# Altium integrated library TI Amplifiers and Linear Operational Amplifier High Speed.IntLib: 1100 symbols (part 17 of 44)
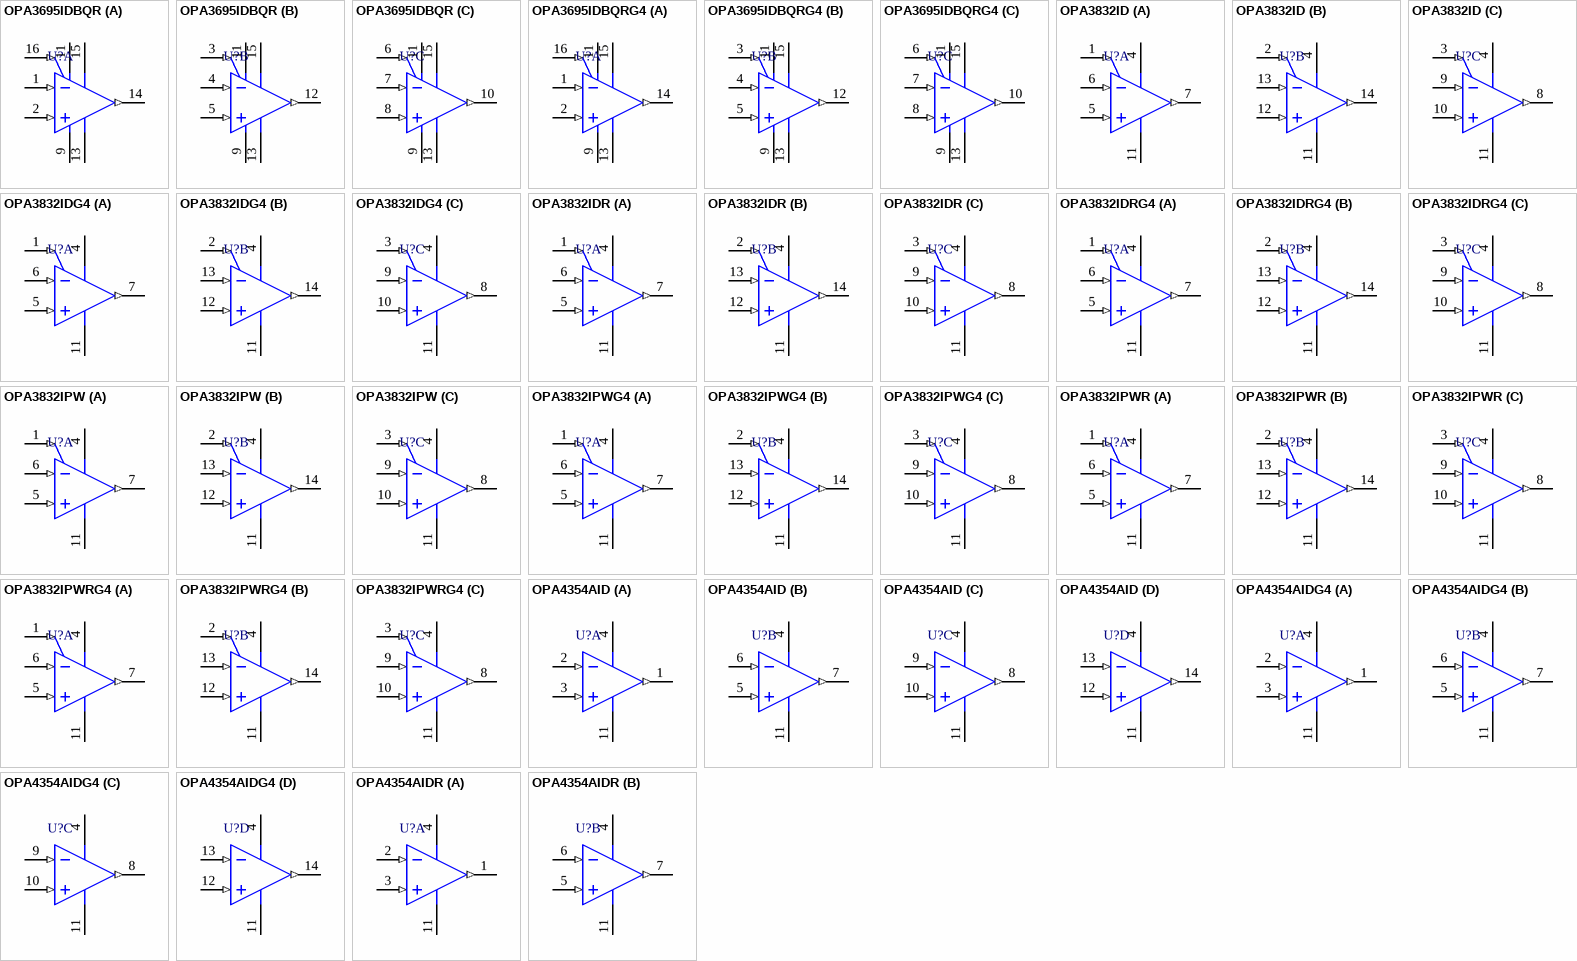
[diagram p67: symbols OPA3695IDBQR to OPA4354AIDR]

## OPA3832IPWG4
designator U?
Triple, Low-Power, High-Speed, Fixed-Gain Operational Amplifier, 3 to 11 V, -40 to 85 degC, 14-pin SOP (PW14), Green (RoHS & no Sb/Br); Manufacturer: Texas Instruments; PartNumber: OPA3832IPWG4; 2nd Harmonic(dBc): 60; 3rd Harmonic(dBc): 79; @ MHz: 5; Acl, min stable gain(V/V): 1; BW @ Acl(MHz): 210; Diff Gain(%): 0.11; Diff Phase(deg): 0.14; Iib(Max)(nA): 10000; Io(Typ)(mA): 75; Iq per channel(Max)(mA): 3.9; Number of Channels: 3; Rail-Rail: Out; Sub Family: High Output Current Amplifier (>=50mA), High Speed Amplifier (>=50MHz); DatasheetVersion: SBOS370A; PackageVersion: 4040064-3/G, 02/2011; PackageReference: PW14; PackageDescription: 14-Pin Plastic Small Outline, Body 5 x 4.4 mm, Pitch 0.65 mm; Supplier 1: Digi-Key; Supplier Part Number 1: OPA3832IPWG4-ND; Supplier 2: Mouser; Supplier Part Number 2: 595-OPA3832IPWG4; Eco-Plan: Green (RoHS & no Sb/Br); Mounting Technology: Surface Mount; Code_JEDEC: MO-153; ComponentLink1Description: Manufacturer URL; ComponentLink1URL: http://www.ti.com/; ComponentLink2Description: Datasheet; ComponentLink2URL: http://www.ti.com/general/docs/lit/getliterature.tsp?genericPartNumber=OPA3832&fileType=pdf; ComponentLink3Description: Package Specification; ComponentLink3URL: http://www.ti.com/litv/pdf/mpds360
footprint TI-PW14_N (SOP, 14-Leads, Body 5x4.4mm, Pitch 0.65mm, IPC Medium Density)
footprint TI-PW14_L (SOP, 14-Leads, Body 5x4.4mm, Pitch 0.65mm, IPC High Density)
footprint TI-PW14_M (SOP, 14-Leads, Body 5x4.4mm, Pitch 0.65mm, IPC Low Density)
pins on every part: 4 VS+ (power), 11 VS- (power)
part A pins: 1 ~{DIS} ~{A} (in), 5 IN A+ (in), 6 IN A- (in), 7 OUT A (out)
part B pins: 2 ~{DIS} ~{B} (in), 12 IN B+ (in), 13 IN B- (in), 14 OUT B (out)
part C pins: 3 ~{DIS} ~{C} (in), 8 OUT C (out), 9 IN C- (in), 10 IN C+ (in)

## OPA3832IPWR
designator U?
Triple, Low-Power, High-Speed, Fixed-Gain Operational Amplifier, 3 to 11 V, -40 to 85 degC, 14-pin SOP (PW14), Green (RoHS & no Sb/Br); Manufacturer: Texas Instruments; PartNumber: OPA3832IPWR; 2nd Harmonic(dBc): 60; 3rd Harmonic(dBc): 79; @ MHz: 5; Acl, min stable gain(V/V): 1; BW @ Acl(MHz): 210; Diff Gain(%): 0.11; Diff Phase(deg): 0.14; Iib(Max)(nA): 10000; Io(Typ)(mA): 75; Iq per channel(Max)(mA): 3.9; Number of Channels: 3; Rail-Rail: Out; Sub Family: High Output Current Amplifier (>=50mA), High Speed Amplifier (>=50MHz); DatasheetVersion: SBOS370A; PackageVersion: 4040064-3/G, 02/2011; PackageReference: PW14; PackageDescription: 14-Pin Plastic Small Outline, Body 5 x 4.4 mm, Pitch 0.65 mm; Supplier 1: Digi-Key; Supplier Part Number 1: OPA3832IPWR-ND; Supplier 2: Mouser; Supplier Part Number 2: 595-OPA3832IPWR; Eco-Plan: Green (RoHS & no Sb/Br); Mounting Technology: Surface Mount; Code_JEDEC: MO-153; ComponentLink1Description: Manufacturer URL; ComponentLink1URL: http://www.ti.com/; ComponentLink2Description: Datasheet; ComponentLink2URL: http://www.ti.com/general/docs/lit/getliterature.tsp?genericPartNumber=OPA3832&fileType=pdf; ComponentLink3Description: Package Specification; ComponentLink3URL: http://www.ti.com/litv/pdf/mpds360
footprint TI-PW14_N (SOP, 14-Leads, Body 5x4.4mm, Pitch 0.65mm, IPC Medium Density)
footprint TI-PW14_L (SOP, 14-Leads, Body 5x4.4mm, Pitch 0.65mm, IPC High Density)
footprint TI-PW14_M (SOP, 14-Leads, Body 5x4.4mm, Pitch 0.65mm, IPC Low Density)
pins on every part: 4 VS+ (power), 11 VS- (power)
part A pins: 1 ~{DIS} ~{A} (in), 5 IN A+ (in), 6 IN A- (in), 7 OUT A (out)
part B pins: 2 ~{DIS} ~{B} (in), 12 IN B+ (in), 13 IN B- (in), 14 OUT B (out)
part C pins: 3 ~{DIS} ~{C} (in), 8 OUT C (out), 9 IN C- (in), 10 IN C+ (in)

## OPA3832IPWRG4
designator U?
Triple, Low-Power, High-Speed, Fixed-Gain Operational Amplifier, 3 to 11 V, -40 to 85 degC, 14-pin SOP (PW14), Green (RoHS & no Sb/Br); Manufacturer: Texas Instruments; PartNumber: OPA3832IPWRG4; 2nd Harmonic(dBc): 65; 3rd Harmonic(dBc): 75; @ MHz: 5; Acl, min stable gain(V/V): 1; BW @ Acl(MHz): 250; Diff Gain(%): 0.1; Diff Phase(deg): 0.16; Iib(Max)(nA): 13000; Io(Typ)(mA): 82; Iq per channel(Max)(mA): 3.9; Number of Channels: 3; Settling Time (0.1%)(Typ)(ns): 45; Slew Rate(Typ)(V/us): 325; Sub Family: High Output Current Amplifier (>=50mA), High Speed Amplifier (>=50MHz); Vio(Max)(mV): 9.7; Vn at Flatband(Typ)(nV/rtHz): 9.2; Vs(Max)(V): 11; DatasheetVersion: SBOS370A; PackageVersion: 4040064-3/G, 02/2011; PackageReference: PW14; PackageDescription: 14-Pin Plastic Small Outline, Body 5 x 4.4 mm, Pitch 0.65 mm; Supplier 1: Digi-Key; Supplier Part Number 1: OPA3832IPWRG4-ND; Supplier 2: Mouser; Supplier Part Number 2: 595-OPA3832IPWRG4; Eco-Plan: Green (RoHS & no Sb/Br); Vs(Min)(V): 3; Mounting Technology: Surface Mount; Code_JEDEC: MO-153; ComponentLink1Description: Manufacturer URL; ComponentLink1URL: http://www.ti.com/; ComponentLink2Description: Datasheet; ComponentLink2URL: http://www.ti.com/general/docs/lit/getliterature.tsp?genericPartNumber=OPA3832&fileType=pdf; ComponentLink3Description: Package Specification; ComponentLink3URL: http://www.ti.com/litv/pdf/mpds360
footprint TI-PW14_N (SOP, 14-Leads, Body 5x4.4mm, Pitch 0.65mm, IPC Medium Density)
footprint TI-PW14_L (SOP, 14-Leads, Body 5x4.4mm, Pitch 0.65mm, IPC High Density)
footprint TI-PW14_M (SOP, 14-Leads, Body 5x4.4mm, Pitch 0.65mm, IPC Low Density)
pins on every part: 4 VS+ (power), 11 VS- (power)
part A pins: 1 ~{DIS} ~{A} (in), 5 IN A+ (in), 6 IN A- (in), 7 OUT A (out)
part B pins: 2 ~{DIS} ~{B} (in), 12 IN B+ (in), 13 IN B- (in), 14 OUT B (out)
part C pins: 3 ~{DIS} ~{C} (in), 8 OUT C (out), 9 IN C- (in), 10 IN C+ (in)

## OPA4354AID
designator U?
250 MHz, Rail-to-Rail I/O, CMOS Quad Operational Amplifier, 2.7 to 5.5 V, -40 to 125 degC, 14-pin SOIC (D14), Green (RoHS & no Sb/Br); Manufacturer: Texas Instruments; PartNumber: OPA4354AID; 2nd Harmonic(dBc): 75; 3rd Harmonic(dBc): 83; @ MHz: 1; BW @ Acl(MHz): 250; Diff Gain(%): 0.02; Diff Phase(deg): 0.09; Iib(Max)(nA): 0.05; Io(Typ)(mA): 100; Iq per channel(Max)(mA): 7.5; Number of Channels: 4; Rail-Rail: In, Out; Settling Time (0.1%)(Typ)(ns): 30; Slew Rate(Typ)(V/us): 150; Sub Family: High Output Current Amplifier (>=50mA), High Speed Amplifier (>=50MHz), Low Supply Voltage Amplifier (<=2.7V); THD (Fc is 1 MHz)(Typ)(dB): -73; Vio(Max)(mV): 8; Vn at Flatband(Typ)(nV/rtHz): 6.5; Vs(Max)(V): 5.5; Vs(Min)(V): 2.7; DatasheetVersion: SBOS233E; PackageVersion: 4040047-5/M, 06/2011; PackageReference: D14; PackageDescription: 14-Pin Plastic Small Outline, Body 8.65 x 3.9 mm, Pitch 1.27 mm; Supplier 1: Digi-Key; Supplier Part Number 1: 296-33479-5-ND; Supplier 2: Farnell; Supplier Part Number 2: 1212311; Supplier 3: Newark; Supplier Part Number 3: 01M8419; Supplier 4: Newark; Supplier Part Number 4: 75C5018; Supplier 5: Mouser; Supplier Part Number 5: 595-OPA4354AID; Acl, min stable gain(V/V): 1; Eco-Plan: Green (RoHS & no Sb/Br); Mounting Technology: Surface Mount; Code_JEDEC: MS-012; ComponentLink1Description: Manufacturer URL; ComponentLink1URL: http://www.ti.com/; ComponentLink2Description: Datasheet; ComponentLink2URL: http://www.ti.com/general/docs/lit/getliterature.tsp?genericPartNumber=OPA4354&fileType=pdf; ComponentLink3Description: Package Specification; ComponentLink3URL: http://www.ti.com/lit/ml/mpds177g/mpds177g.pdf
footprint TI-D14_N (SOIC, 14-Leads, Body 8.65x3.9mm, Pitch 1.27mm, IPC Medium Density)
footprint TI-D14_L (SOIC, 14-Leads, Body 8.65x3.9mm, Pitch 1.27mm, IPC High Density)
footprint TI-D14_M (SOIC, 14-Leads, Body 8.65x3.9mm, Pitch 1.27mm, IPC Low Density)
pins on every part: 4 V+ (power), 11 V- (power)
part A pins: 1 OUT A (out), 2 IN A- (in), 3 IN A+ (in)
part B pins: 5 IN B+ (in), 6 IN B- (in), 7 OUT B (out)
part C pins: 8 OUT C (out), 9 IN C- (in), 10 IN C+ (in)
part D pins: 12 IN D+ (in), 13 IN D- (in), 14 OUT D (out)

## OPA4354AIDG4
designator U?
250 MHz, Rail-to-Rail I/O, CMOS Quad Operational Amplifier, 2.7 to 5.5 V, -40 to 125 degC, 14-pin SOIC (D14), Green (RoHS & no Sb/Br); Manufacturer: Texas Instruments; PartNumber: OPA4354AIDG4; 2nd Harmonic(dBc): 75; 3rd Harmonic(dBc): 83; @ MHz: 1; BW @ Acl(MHz): 250; Diff Gain(%): 0.02; Diff Phase(deg): 0.09; Iib(Max)(nA): 0.05; Io(Typ)(mA): 100; Iq per channel(Max)(mA): 7.5; Number of Channels: 4; Rail-Rail: In, Out; Settling Time (0.1%)(Typ)(ns): 30; Slew Rate(Typ)(V/us): 150; Sub Family: High Output Current Amplifier (>=50mA), High Speed Amplifier (>=50MHz), Low Supply Voltage Amplifier (<=2.7V); THD (Fc is 1 MHz)(Typ)(dB): -73; Vio(Max)(mV): 8; Vn at Flatband(Typ)(nV/rtHz): 6.5; Vs(Max)(V): 5.5; Vs(Min)(V): 2.7; DatasheetVersion: SBOS233E; PackageVersion: 4040047-5/M, 06/2011; PackageReference: D14; PackageDescription: 14-Pin Plastic Small Outline, Body 8.65 x 3.9 mm, Pitch 1.27 mm; Supplier 1: Digi-Key; Supplier Part Number 1: OPA4354AIDG4-ND; Supplier 2: Newark; Supplier Part Number 2: 20M5656; Supplier 3: Mouser; Supplier Part Number 3: 595-OPA4354AIDG4; Acl, min stable gain(V/V): 1; Eco-Plan: Green (RoHS & no Sb/Br); Mounting Technology: Surface Mount; Code_JEDEC: MS-012; ComponentLink1Description: Manufacturer URL; ComponentLink1URL: http://www.ti.com/; ComponentLink2Description: Datasheet; ComponentLink2URL: http://www.ti.com/general/docs/lit/getliterature.tsp?genericPartNumber=OPA4354&fileType=pdf; ComponentLink3Description: Package Specification; ComponentLink3URL: http://www.ti.com/lit/ml/mpds177g/mpds177g.pdf
footprint TI-D14_N (SOIC, 14-Leads, Body 8.65x3.9mm, Pitch 1.27mm, IPC Medium Density)
footprint TI-D14_L (SOIC, 14-Leads, Body 8.65x3.9mm, Pitch 1.27mm, IPC High Density)
footprint TI-D14_M (SOIC, 14-Leads, Body 8.65x3.9mm, Pitch 1.27mm, IPC Low Density)
pins on every part: 4 V+ (power), 11 V- (power)
part A pins: 1 OUT A (out), 2 IN A- (in), 3 IN A+ (in)
part B pins: 5 IN B+ (in), 6 IN B- (in), 7 OUT B (out)
part C pins: 8 OUT C (out), 9 IN C- (in), 10 IN C+ (in)
part D pins: 12 IN D+ (in), 13 IN D- (in), 14 OUT D (out)

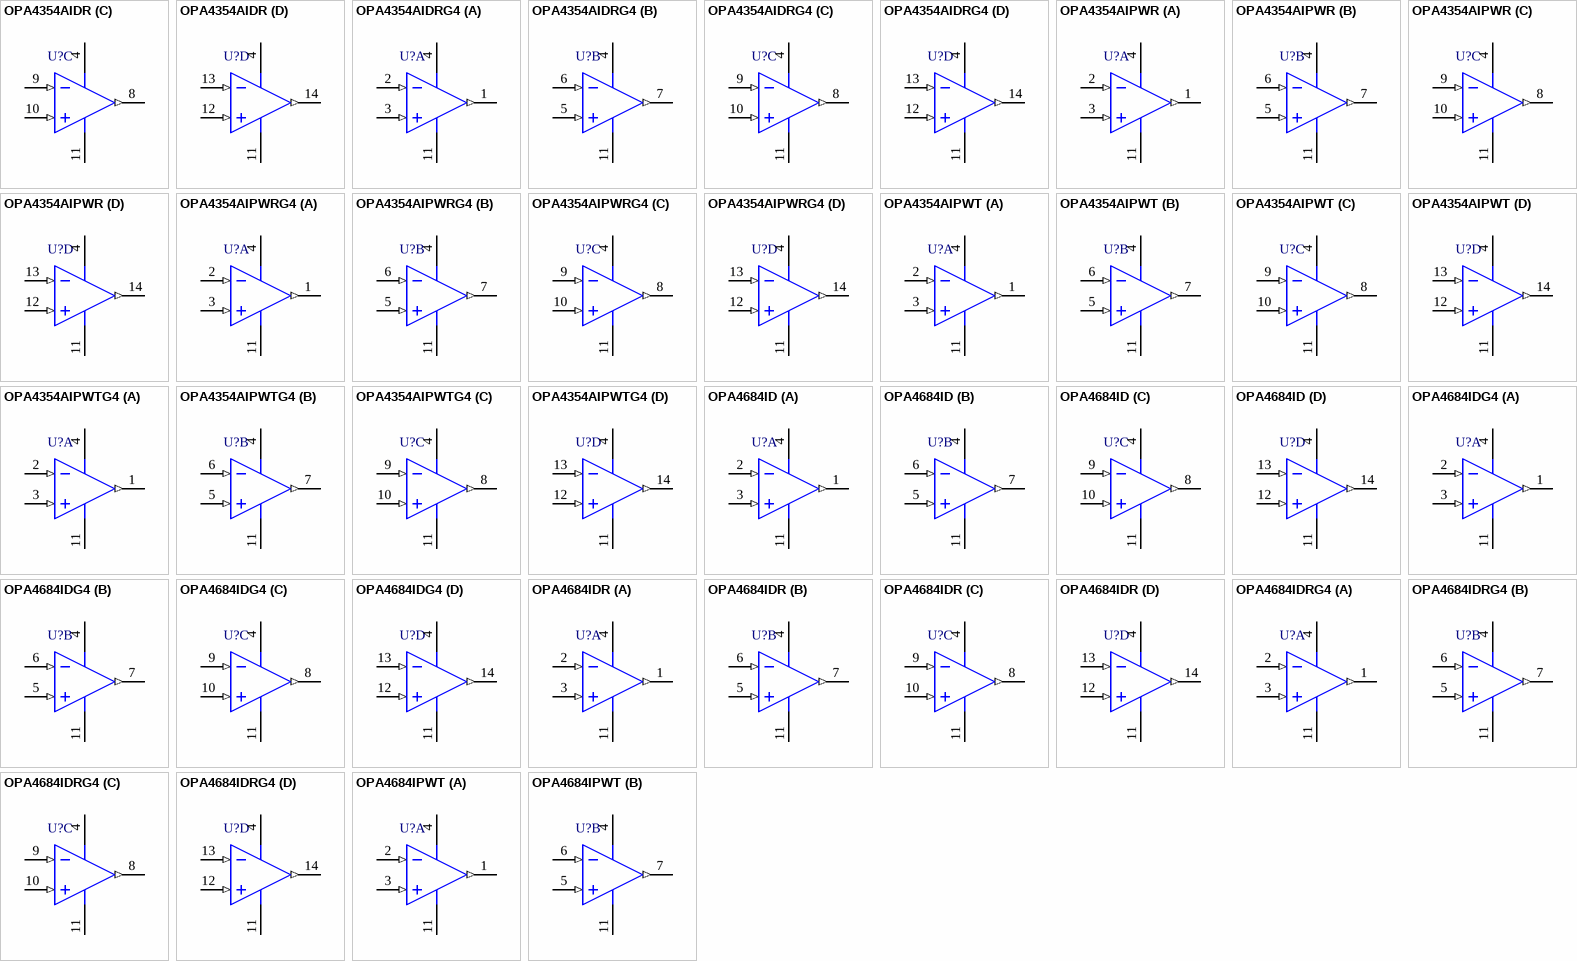
[diagram p19: symbols OPA4354AIDR to OPA4684IPWT]

## OPA4354AIDR
designator U?
250 MHz, Rail-to-Rail I/O, CMOS Quad Operational Amplifier, 2.7 to 5.5 V, -40 to 125 degC, 14-pin SOIC (D14), Green (RoHS & no Sb/Br); Manufacturer: Texas Instruments; PartNumber: OPA4354AIDR; 2nd Harmonic(dBc): 75; 3rd Harmonic(dBc): 83; @ MHz: 1; BW @ Acl(MHz): 250; Diff Gain(%): 0.02; Diff Phase(deg): 0.09; Iib(Max)(nA): 0.05; Io(Typ)(mA): 100; Iq per channel(Max)(mA): 7.5; Number of Channels: 4; Rail-Rail: In, Out; Settling Time (0.1%)(Typ)(ns): 30; Slew Rate(Typ)(V/us): 150; Sub Family: High Output Current Amplifier (>=50mA), High Speed Amplifier (>=50MHz), Low Supply Voltage Amplifier (<=2.7V); THD (Fc is 1 MHz)(Typ)(dB): -73; Vio(Max)(mV): 8; Vn at Flatband(Typ)(nV/rtHz): 6.5; Vs(Max)(V): 5.5; Vs(Min)(V): 2.7; DatasheetVersion: SBOS233E; PackageVersion: 4040047-5/M, 06/2011; PackageReference: D14; PackageDescription: 14-Pin Plastic Small Outline, Body 8.65 x 3.9 mm, Pitch 1.27 mm; Supplier 1: Digi-Key; Supplier Part Number 1: 296-12643-2-ND; Supplier 2: Digi-Key; Supplier Part Number 2: 296-12643-1-ND; Supplier 3: Digi-Key; Supplier Part Number 3: 296-12643-6-ND; Supplier 4: Newark; Supplier Part Number 4: 75C5019; Supplier 5: Mouser; Supplier Part Number 5: 595-OPA4354AIDR; Acl, min stable gain(V/V): 1; Eco-Plan: Green (RoHS & no Sb/Br); Mounting Technology: Surface Mount; Code_JEDEC: MS-012; ComponentLink1Description: Manufacturer URL; ComponentLink1URL: http://www.ti.com/; ComponentLink2Description: Datasheet; ComponentLink2URL: http://www.ti.com/general/docs/lit/getliterature.tsp?genericPartNumber=OPA4354&fileType=pdf; ComponentLink3Description: Package Specification; ComponentLink3URL: http://www.ti.com/lit/ml/mpds177g/mpds177g.pdf
footprint TI-D14_N (SOIC, 14-Leads, Body 8.65x3.9mm, Pitch 1.27mm, IPC Medium Density)
footprint TI-D14_L (SOIC, 14-Leads, Body 8.65x3.9mm, Pitch 1.27mm, IPC High Density)
footprint TI-D14_M (SOIC, 14-Leads, Body 8.65x3.9mm, Pitch 1.27mm, IPC Low Density)
pins on every part: 4 V+ (power), 11 V- (power)
part A pins: 1 OUT A (out), 2 IN A- (in), 3 IN A+ (in)
part B pins: 5 IN B+ (in), 6 IN B- (in), 7 OUT B (out)
part C pins: 8 OUT C (out), 9 IN C- (in), 10 IN C+ (in)
part D pins: 12 IN D+ (in), 13 IN D- (in), 14 OUT D (out)

## OPA4354AIDRG4
designator U?
250 MHz, Rail-to-Rail I/O, CMOS Quad Operational Amplifier, 2.7 to 5.5 V, -40 to 125 degC, 14-pin SOIC (D14), Green (RoHS & no Sb/Br); Manufacturer: Texas Instruments; PartNumber: OPA4354AIDRG4; 2nd Harmonic(dBc): 75; 3rd Harmonic(dBc): 83; @ MHz: 1; BW @ Acl(MHz): 250; Diff Gain(%): 0.02; Diff Phase(deg): 0.09; Iib(Max)(nA): 0.05; Io(Typ)(mA): 100; Iq per channel(Max)(mA): 7.5; Number of Channels: 4; Rail-Rail: In, Out; Settling Time (0.1%)(Typ)(ns): 30; Slew Rate(Typ)(V/us): 150; Sub Family: High Output Current Amplifier (>=50mA), High Speed Amplifier (>=50MHz), Low Supply Voltage Amplifier (<=2.7V); THD (Fc is 1 MHz)(Typ)(dB): -73; Vio(Max)(mV): 8; Vn at Flatband(Typ)(nV/rtHz): 6.5; Vs(Max)(V): 5.5; Vs(Min)(V): 2.7; DatasheetVersion: SBOS233E; PackageVersion: 4040047-5/M, 06/2011; PackageReference: D14; PackageDescription: 14-Pin Plastic Small Outline, Body 8.65 x 3.9 mm, Pitch 1.27 mm; Supplier 1: Digi-Key; Supplier Part Number 1: OPA4354AIDRG4-ND; Supplier 2: Mouser; Supplier Part Number 2: 595-OPA4354AIDRG4; Acl, min stable gain(V/V): 1; Eco-Plan: Green (RoHS & no Sb/Br); Mounting Technology: Surface Mount; Code_JEDEC: MS-012; ComponentLink1Description: Manufacturer URL; ComponentLink1URL: http://www.ti.com/; ComponentLink2Description: Datasheet; ComponentLink2URL: http://www.ti.com/general/docs/lit/getliterature.tsp?genericPartNumber=OPA4354&fileType=pdf; ComponentLink3Description: Package Specification; ComponentLink3URL: http://www.ti.com/lit/ml/mpds177g/mpds177g.pdf
footprint TI-D14_N (SOIC, 14-Leads, Body 8.65x3.9mm, Pitch 1.27mm, IPC Medium Density)
footprint TI-D14_L (SOIC, 14-Leads, Body 8.65x3.9mm, Pitch 1.27mm, IPC High Density)
footprint TI-D14_M (SOIC, 14-Leads, Body 8.65x3.9mm, Pitch 1.27mm, IPC Low Density)
pins on every part: 4 V+ (power), 11 V- (power)
part A pins: 1 OUT A (out), 2 IN A- (in), 3 IN A+ (in)
part B pins: 5 IN B+ (in), 6 IN B- (in), 7 OUT B (out)
part C pins: 8 OUT C (out), 9 IN C- (in), 10 IN C+ (in)
part D pins: 12 IN D+ (in), 13 IN D- (in), 14 OUT D (out)

## OPA4354AIPWR
designator U?
250 MHz, Rail-to-Rail I/O, CMOS Quad Operational Amplifier, 2.7 to 5.5 V, -40 to 125 degC, 14-pin SOP (PW14), Green (RoHS & no Sb/Br); Manufacturer: Texas Instruments; PartNumber: OPA4354AIPWR; 2nd Harmonic(dBc): 75; 3rd Harmonic(dBc): 83; @ MHz: 1; BW @ Acl(MHz): 250; Diff Gain(%): 0.02; Diff Phase(deg): 0.09; Iib(Max)(nA): 0.05; Io(Typ)(mA): 100; Iq per channel(Max)(mA): 7.5; Number of Channels: 4; Rail-Rail: In, Out; Settling Time (0.1%)(Typ)(ns): 30; Slew Rate(Typ)(V/us): 150; Sub Family: High Output Current Amplifier (>=50mA), High Speed Amplifier (>=50MHz), Low Supply Voltage Amplifier (<=2.7V); THD (Fc is 1 MHz)(Typ)(dB): -73; Vio(Max)(mV): 8; Vn at Flatband(Typ)(nV/rtHz): 6.5; Vs(Max)(V): 5.5; Vs(Min)(V): 2.7; DatasheetVersion: SBOS233E; PackageVersion: 4040064-3/G, 02/2011; PackageReference: PW14; PackageDescription: 14-Pin Plastic Small Outline, Body 5 x 4.4 mm, Pitch 0.65 mm; Supplier 1: Digi-Key; Supplier Part Number 1: 296-12644-2-ND; Supplier 2: Digi-Key; Supplier Part Number 2: 296-12644-1-ND; Supplier 3: Digi-Key; Supplier Part Number 3: 296-12644-6-ND; Supplier 4: Farnell; Supplier Part Number 4: 2112580; Supplier 5: Farnell; Supplier Part Number 5: 1575519; Supplier 6: Newark; Supplier Part Number 6: 75C5020; Supplier 7: Mouser; Supplier Part Number 7: 595-OPA4354AIPWR; Acl, min stable gain(V/V): 1; Eco-Plan: Green (RoHS & no Sb/Br); Mounting Technology: Surface Mount; Code_JEDEC: MO-153; ComponentLink1Description: Manufacturer URL; ComponentLink1URL: http://www.ti.com/; ComponentLink2Description: Datasheet; ComponentLink2URL: http://www.ti.com/general/docs/lit/getliterature.tsp?genericPartNumber=OPA4354&fileType=pdf; ComponentLink3Description: Package Specification; ComponentLink3URL: http://www.ti.com/litv/pdf/mpds360
footprint TI-PW14_N (SOP, 14-Leads, Body 5x4.4mm, Pitch 0.65mm, IPC Medium Density)
footprint TI-PW14_L (SOP, 14-Leads, Body 5x4.4mm, Pitch 0.65mm, IPC High Density)
footprint TI-PW14_M (SOP, 14-Leads, Body 5x4.4mm, Pitch 0.65mm, IPC Low Density)
pins on every part: 4 V+ (power), 11 V- (power)
part A pins: 1 OUT A (out), 2 IN A- (in), 3 IN A+ (in)
part B pins: 5 IN B+ (in), 6 IN B- (in), 7 OUT B (out)
part C pins: 8 OUT C (out), 9 IN C- (in), 10 IN C+ (in)
part D pins: 12 IN D+ (in), 13 IN D- (in), 14 OUT D (out)

## OPA4354AIPWRG4
designator U?
250 MHz, Rail-to-Rail I/O, CMOS Quad Operational Amplifier, 2.7 to 5.5 V, -40 to 125 degC, 14-pin SOP (PW14), Green (RoHS & no Sb/Br); Manufacturer: Texas Instruments; PartNumber: OPA4354AIPWRG4; 2nd Harmonic(dBc): 75; 3rd Harmonic(dBc): 83; @ MHz: 1; BW @ Acl(MHz): 250; Diff Gain(%): 0.02; Diff Phase(deg): 0.09; Iib(Max)(nA): 0.05; Io(Typ)(mA): 100; Iq per channel(Max)(mA): 7.5; Number of Channels: 4; Rail-Rail: In, Out; Settling Time (0.1%)(Typ)(ns): 30; Slew Rate(Typ)(V/us): 150; Sub Family: High Output Current Amplifier (>=50mA), High Speed Amplifier (>=50MHz), Low Supply Voltage Amplifier (<=2.7V); THD (Fc is 1 MHz)(Typ)(dB): -73; Vio(Max)(mV): 8; Vn at Flatband(Typ)(nV/rtHz): 6.5; Vs(Max)(V): 5.5; Vs(Min)(V): 2.7; DatasheetVersion: SBOS233E; PackageVersion: 4040064-3/G, 02/2011; PackageReference: PW14; PackageDescription: 14-Pin Plastic Small Outline, Body 5 x 4.4 mm, Pitch 0.65 mm; Supplier 1: Digi-Key; Supplier Part Number 1: OPA4354AIPWRG4-ND; Supplier 2: Mouser; Supplier Part Number 2: 595-OPA4354AIPWRG4; Acl, min stable gain(V/V): 1; Eco-Plan: Green (RoHS & no Sb/Br); Mounting Technology: Surface Mount; Code_JEDEC: MO-153; ComponentLink1Description: Manufacturer URL; ComponentLink1URL: http://www.ti.com/; ComponentLink2Description: Datasheet; ComponentLink2URL: http://www.ti.com/general/docs/lit/getliterature.tsp?genericPartNumber=OPA4354&fileType=pdf; ComponentLink3Description: Package Specification; ComponentLink3URL: http://www.ti.com/litv/pdf/mpds360
footprint TI-PW14_N (SOP, 14-Leads, Body 5x4.4mm, Pitch 0.65mm, IPC Medium Density)
footprint TI-PW14_L (SOP, 14-Leads, Body 5x4.4mm, Pitch 0.65mm, IPC High Density)
footprint TI-PW14_M (SOP, 14-Leads, Body 5x4.4mm, Pitch 0.65mm, IPC Low Density)
pins on every part: 4 V+ (power), 11 V- (power)
part A pins: 1 OUT A (out), 2 IN A- (in), 3 IN A+ (in)
part B pins: 5 IN B+ (in), 6 IN B- (in), 7 OUT B (out)
part C pins: 8 OUT C (out), 9 IN C- (in), 10 IN C+ (in)
part D pins: 12 IN D+ (in), 13 IN D- (in), 14 OUT D (out)

## OPA4354AIPWT
designator U?
250 MHz, Rail-to-Rail I/O, CMOS Quad Operational Amplifier, 2.7 to 5.5 V, -40 to 125 degC, 14-pin SOP (PW14), Green (RoHS & no Sb/Br); Manufacturer: Texas Instruments; PartNumber: OPA4354AIPWT; 2nd Harmonic(dBc): 75; 3rd Harmonic(dBc): 83; @ MHz: 1; BW @ Acl(MHz): 250; Diff Gain(%): 0.02; Diff Phase(deg): 0.09; Iib(Max)(nA): 0.05; Io(Typ)(mA): 100; Iq per channel(Max)(mA): 7.5; Number of Channels: 4; Rail-Rail: In, Out; Settling Time (0.1%)(Typ)(ns): 30; Slew Rate(Typ)(V/us): 150; Sub Family: High Output Current Amplifier (>=50mA), High Speed Amplifier (>=50MHz), Low Supply Voltage Amplifier (<=2.7V); THD (Fc is 1 MHz)(Typ)(dB): -73; Vio(Max)(mV): 8; Vn at Flatband(Typ)(nV/rtHz): 6.5; Vs(Max)(V): 5.5; Vs(Min)(V): 2.7; DatasheetVersion: SBOS233E; PackageVersion: 4040064-3/G, 02/2011; PackageReference: PW14; PackageDescription: 14-Pin Plastic Small Outline, Body 5 x 4.4 mm, Pitch 0.65 mm; Supplier 1: Digi-Key; Supplier Part Number 1: 296-26287-2-ND; Supplier 2: Digi-Key; Supplier Part Number 2: 296-26287-1-ND; Supplier 3: Digi-Key; Supplier Part Number 3: 296-26287-6-ND; Supplier 4: Newark; Supplier Part Number 4: 75C5021; Supplier 5: Mouser; Supplier Part Number 5: 595-OPA4354AIPWT; Acl, min stable gain(V/V): 1; Eco-Plan: Green (RoHS & no Sb/Br); Mounting Technology: Surface Mount; Code_JEDEC: MO-153; ComponentLink1Description: Manufacturer URL; ComponentLink1URL: http://www.ti.com/; ComponentLink2Description: Datasheet; ComponentLink2URL: http://www.ti.com/general/docs/lit/getliterature.tsp?genericPartNumber=OPA4354&fileType=pdf; ComponentLink3Description: Package Specification; ComponentLink3URL: http://www.ti.com/litv/pdf/mpds360
footprint TI-PW14_N (SOP, 14-Leads, Body 5x4.4mm, Pitch 0.65mm, IPC Medium Density)
footprint TI-PW14_L (SOP, 14-Leads, Body 5x4.4mm, Pitch 0.65mm, IPC High Density)
footprint TI-PW14_M (SOP, 14-Leads, Body 5x4.4mm, Pitch 0.65mm, IPC Low Density)
pins on every part: 4 V+ (power), 11 V- (power)
part A pins: 1 OUT A (out), 2 IN A- (in), 3 IN A+ (in)
part B pins: 5 IN B+ (in), 6 IN B- (in), 7 OUT B (out)
part C pins: 8 OUT C (out), 9 IN C- (in), 10 IN C+ (in)
part D pins: 12 IN D+ (in), 13 IN D- (in), 14 OUT D (out)

## OPA4354AIPWTG4
designator U?
250 MHz, Rail-to-Rail I/O, CMOS Quad Operational Amplifier, 2.7 to 5.5 V, -40 to 125 degC, 14-pin SOP (PW14), Green (RoHS & no Sb/Br); Manufacturer: Texas Instruments; PartNumber: OPA4354AIPWTG4; 2nd Harmonic(dBc): 75; 3rd Harmonic(dBc): 83; @ MHz: 1; BW @ Acl(MHz): 250; Diff Gain(%): 0.02; Diff Phase(deg): 0.09; Iib(Max)(nA): 0.05; Iq per channel(Max)(mA): 7.5; Number of Channels: 4; Rail-Rail: In, Out; Settling Time (0.1%)(Typ)(ns): 30; Slew Rate(Typ)(V/us): 150; Sub Family: High Output Current Amplifier (>=50mA), High Speed Amplifier (>=50MHz), Low Supply Voltage Amplifier (<=2.7V); THD (Fc is 1 MHz)(Typ)(dB): -73; Vio(Max)(mV): 10; Vn at Flatband(Typ)(nV/rtHz): 6.5; Vs(Max)(V): 5.5; Vs(Min)(V): 2.7; DatasheetVersion: SBOS233E; PackageVersion: 4040064-3/G, 02/2011; PackageReference: PW14; PackageDescription: 14-Pin Plastic Small Outline, Body 5 x 4.4 mm, Pitch 0.65 mm; Supplier 1: Digi-Key; Supplier Part Number 1: OPA4354AIPWTG4-ND; Supplier 2: Mouser; Supplier Part Number 2: 595-OPA4354AIPWTG4; Acl, min stable gain(V/V): 1; Eco-Plan: Green (RoHS & no Sb/Br); Mounting Technology: Surface Mount; Code_JEDEC: MO-153; ComponentLink1Description: Manufacturer URL; ComponentLink1URL: http://www.ti.com/; ComponentLink2Description: Datasheet; ComponentLink2URL: http://www.ti.com/general/docs/lit/getliterature.tsp?genericPartNumber=OPA4354&fileType=pdf; ComponentLink3Description: Package Specification; ComponentLink3URL: http://www.ti.com/litv/pdf/mpds360
footprint TI-PW14_N (SOP, 14-Leads, Body 5x4.4mm, Pitch 0.65mm, IPC Medium Density)
footprint TI-PW14_L (SOP, 14-Leads, Body 5x4.4mm, Pitch 0.65mm, IPC High Density)
footprint TI-PW14_M (SOP, 14-Leads, Body 5x4.4mm, Pitch 0.65mm, IPC Low Density)
pins on every part: 4 V+ (power), 11 V- (power)
part A pins: 1 OUT A (out), 2 IN A- (in), 3 IN A+ (in)
part B pins: 5 IN B+ (in), 6 IN B- (in), 7 OUT B (out)
part C pins: 8 OUT C (out), 9 IN C- (in), 10 IN C+ (in)
part D pins: 12 IN D+ (in), 13 IN D- (in), 14 OUT D (out)

## OPA4684ID
designator U?
Quad, Low-Power, Current Feedback Operational Amplifier, 5 to 12 V, -40 to 85 degC, 14-pin SOIC (D14), Green (RoHS & no Sb/Br); Manufacturer: Texas Instruments; PartNumber: OPA4684ID; 2nd Harmonic(dBc): 80; @ MHz: 5; Acl, min stable gain(V/V): 1; BW @ Acl(MHz): 250; Diff Gain(%): 0.04; Diff Phase(deg): 0.02; Iib(Max)(nA): 15000; Io(Typ)(mA): 120; Iq per channel(Max)(mA): 7.8; Number of Channels: 4; Slew Rate(Typ)(V/us): 750; Sub Family: High Output Current Amplifier (>=50mA), High Speed Amplifier (>=50MHz); THD (Fc is 1 MHz)(Typ)(dB): -79; Vn at Flatband(Typ)(nV/rtHz): 3.7; Vs(Max)(V): 12; DatasheetVersion: SBOS240G; PackageVersion: 4040047-5/M, 06/2011; PackageReference: D14; PackageDescription: 14-Pin Plastic Small Outline, Body 8.65 x 3.9 mm, Pitch 1.27 mm; Supplier 1: Digi-Key; Supplier Part Number 1: 296-13648-5-ND; Supplier 2: Newark; Supplier Part Number 2: 02E6722; Supplier 3: Mouser; Supplier Part Number 3: 595-OPA4684ID; 3rd Harmonic(dBc): 80; Eco-Plan: Green (RoHS & no Sb/Br); Vio(Max)(mV): 4; Vs(Min)(V): 5; Mounting Technology: Surface Mount; Code_JEDEC: MS-012; ComponentLink1Description: Manufacturer URL; ComponentLink1URL: http://www.ti.com/; ComponentLink2Description: Datasheet; ComponentLink2URL: http://www.ti.com/general/docs/lit/getliterature.tsp?genericPartNumber=OPA4684&fileType=pdf; ComponentLink3Description: Package Specification; ComponentLink3URL: http://www.ti.com/lit/ml/mpds177g/mpds177g.pdf
footprint TI-D14_N (SOIC, 14-Leads, Body 8.65x3.9mm, Pitch 1.27mm, IPC Medium Density)
footprint TI-D14_L (SOIC, 14-Leads, Body 8.65x3.9mm, Pitch 1.27mm, IPC High Density)
footprint TI-D14_M (SOIC, 14-Leads, Body 8.65x3.9mm, Pitch 1.27mm, IPC Low Density)
pins on every part: 4 V+ (power), 11 V- (power)
part A pins: 1 OUT A (out), 2 IN A- (in), 3 IN A+ (in)
part B pins: 5 IN B+ (in), 6 IN B- (in), 7 OUT B (out)
part C pins: 8 OUT C (out), 9 IN C- (in), 10 IN C+ (in)
part D pins: 12 IN D+ (in), 13 IN D- (in), 14 OUT D (out)

## OPA4684IDG4
designator U?
Quad, Low-Power, Current Feedback Operational Amplifier, 5 to 12 V, -40 to 85 degC, 14-pin SOIC (D14), Green (RoHS & no Sb/Br); Manufacturer: Texas Instruments; PartNumber: OPA4684IDG4; 2nd Harmonic(dBc): 80; @ MHz: 5; Acl, min stable gain(V/V): 1; BW @ Acl(MHz): 250; Diff Gain(%): 0.04; Diff Phase(deg): 0.02; Iib(Max)(nA): 15000; Io(Typ)(mA): 120; Iq per channel(Max)(mA): 7.8; Number of Channels: 4; Slew Rate(Typ)(V/us): 750; Sub Family: High Output Current Amplifier (>=50mA), High Speed Amplifier (>=50MHz); THD (Fc is 1 MHz)(Typ)(dB): -79; Vn at Flatband(Typ)(nV/rtHz): 3.7; Vs(Max)(V): 12; DatasheetVersion: SBOS240G; PackageVersion: 4040047-5/M, 06/2011; PackageReference: D14; PackageDescription: 14-Pin Plastic Small Outline, Body 8.65 x 3.9 mm, Pitch 1.27 mm; Supplier 1: Digi-Key; Supplier Part Number 1: OPA4684IDG4-ND; Supplier 2: Newark; Supplier Part Number 2: 02M4025; Supplier 3: Mouser; Supplier Part Number 3: 595-OPA4684IDG4; 3rd Harmonic(dBc): 80; Eco-Plan: Green (RoHS & no Sb/Br); Vio(Max)(mV): 4; Vs(Min)(V): 5; Mounting Technology: Surface Mount; Code_JEDEC: MS-012; ComponentLink1Description: Manufacturer URL; ComponentLink1URL: http://www.ti.com/; ComponentLink2Description: Datasheet; ComponentLink2URL: http://www.ti.com/general/docs/lit/getliterature.tsp?genericPartNumber=OPA4684&fileType=pdf; ComponentLink3Description: Package Specification; ComponentLink3URL: http://www.ti.com/lit/ml/mpds177g/mpds177g.pdf
footprint TI-D14_N (SOIC, 14-Leads, Body 8.65x3.9mm, Pitch 1.27mm, IPC Medium Density)
footprint TI-D14_L (SOIC, 14-Leads, Body 8.65x3.9mm, Pitch 1.27mm, IPC High Density)
footprint TI-D14_M (SOIC, 14-Leads, Body 8.65x3.9mm, Pitch 1.27mm, IPC Low Density)
pins on every part: 4 V+ (power), 11 V- (power)
part A pins: 1 OUT A (out), 2 IN A- (in), 3 IN A+ (in)
part B pins: 5 IN B+ (in), 6 IN B- (in), 7 OUT B (out)
part C pins: 8 OUT C (out), 9 IN C- (in), 10 IN C+ (in)
part D pins: 12 IN D+ (in), 13 IN D- (in), 14 OUT D (out)

## OPA4684IDR
designator U?
Quad, Low-Power, Current Feedback Operational Amplifier, 5 to 12 V, -40 to 85 degC, 14-pin SOIC (D14), Green (RoHS & no Sb/Br); Manufacturer: Texas Instruments; PartNumber: OPA4684IDR; 2nd Harmonic(dBc): 80; @ MHz: 5; Acl, min stable gain(V/V): 1; BW @ Acl(MHz): 250; Diff Gain(%): 0.04; Diff Phase(deg): 0.02; Iib(Max)(nA): 15000; Io(Typ)(mA): 120; Iq per channel(Max)(mA): 7.8; Number of Channels: 4; Slew Rate(Typ)(V/us): 750; Sub Family: High Output Current Amplifier (>=50mA), High Speed Amplifier (>=50MHz); THD (Fc is 1 MHz)(Typ)(dB): -79; Vn at Flatband(Typ)(nV/rtHz): 3.7; Vs(Max)(V): 12; DatasheetVersion: SBOS240G; PackageVersion: 4040047-5/M, 06/2011; PackageReference: D14; PackageDescription: 14-Pin Plastic Small Outline, Body 8.65 x 3.9 mm, Pitch 1.27 mm; Supplier 1: Digi-Key; Supplier Part Number 1: OPA4684IDR-ND; Supplier 2: Mouser; Supplier Part Number 2: 595-OPA4684IDR; 3rd Harmonic(dBc): 80; Eco-Plan: Green (RoHS & no Sb/Br); Vio(Max)(mV): 4; Vs(Min)(V): 5; Mounting Technology: Surface Mount; Code_JEDEC: MS-012; ComponentLink1Description: Manufacturer URL; ComponentLink1URL: http://www.ti.com/; ComponentLink2Description: Datasheet; ComponentLink2URL: http://www.ti.com/general/docs/lit/getliterature.tsp?genericPartNumber=OPA4684&fileType=pdf; ComponentLink3Description: Package Specification; ComponentLink3URL: http://www.ti.com/lit/ml/mpds177g/mpds177g.pdf
footprint TI-D14_N (SOIC, 14-Leads, Body 8.65x3.9mm, Pitch 1.27mm, IPC Medium Density)
footprint TI-D14_L (SOIC, 14-Leads, Body 8.65x3.9mm, Pitch 1.27mm, IPC High Density)
footprint TI-D14_M (SOIC, 14-Leads, Body 8.65x3.9mm, Pitch 1.27mm, IPC Low Density)
pins on every part: 4 V+ (power), 11 V- (power)
part A pins: 1 OUT A (out), 2 IN A- (in), 3 IN A+ (in)
part B pins: 5 IN B+ (in), 6 IN B- (in), 7 OUT B (out)
part C pins: 8 OUT C (out), 9 IN C- (in), 10 IN C+ (in)
part D pins: 12 IN D+ (in), 13 IN D- (in), 14 OUT D (out)

## OPA4684IDRG4
designator U?
Quad, Low-Power, Current Feedback Operational Amplifier, 5 to 12 V, -40 to 85 degC, 14-pin SOIC (D14), Green (RoHS & no Sb/Br); Manufacturer: Texas Instruments; PartNumber: OPA4684IDRG4; 2nd Harmonic(dBc): 80; @ MHz: 5; Acl, min stable gain(V/V): 1; BW @ Acl(MHz): 250; Diff Gain(%): 0.04; Diff Phase(deg): 0.02; Iib(Max)(nA): 15000; Io(Typ)(mA): 120; Iq per channel(Max)(mA): 7.8; Number of Channels: 4; Slew Rate(Typ)(V/us): 750; Sub Family: High Output Current Amplifier (>=50mA), High Speed Amplifier (>=50MHz); THD (Fc is 1 MHz)(Typ)(dB): -79; Vn at Flatband(Typ)(nV/rtHz): 3.7; Vs(Max)(V): 12; DatasheetVersion: SBOS240G; PackageVersion: 4040047-5/M, 06/2011; PackageReference: D14; PackageDescription: 14-Pin Plastic Small Outline, Body 8.65 x 3.9 mm, Pitch 1.27 mm; Supplier 1: Digi-Key; Supplier Part Number 1: OPA4684IDRG4-ND; Supplier 2: Newark; Supplier Part Number 2: 67K8213; Supplier 3: Mouser; Supplier Part Number 3: 595-OPA4684IDRG4; 3rd Harmonic(dBc): 80; Eco-Plan: Green (RoHS & no Sb/Br); Vio(Max)(mV): 4; Vs(Min)(V): 5; Mounting Technology: Surface Mount; Code_JEDEC: MS-012; ComponentLink1Description: Manufacturer URL; ComponentLink1URL: http://www.ti.com/; ComponentLink2Description: Datasheet; ComponentLink2URL: http://www.ti.com/general/docs/lit/getliterature.tsp?genericPartNumber=OPA4684&fileType=pdf; ComponentLink3Description: Package Specification; ComponentLink3URL: http://www.ti.com/lit/ml/mpds177g/mpds177g.pdf
footprint TI-D14_N (SOIC, 14-Leads, Body 8.65x3.9mm, Pitch 1.27mm, IPC Medium Density)
footprint TI-D14_L (SOIC, 14-Leads, Body 8.65x3.9mm, Pitch 1.27mm, IPC High Density)
footprint TI-D14_M (SOIC, 14-Leads, Body 8.65x3.9mm, Pitch 1.27mm, IPC Low Density)
pins on every part: 4 V+ (power), 11 V- (power)
part A pins: 1 OUT A (out), 2 IN A- (in), 3 IN A+ (in)
part B pins: 5 IN B+ (in), 6 IN B- (in), 7 OUT B (out)
part C pins: 8 OUT C (out), 9 IN C- (in), 10 IN C+ (in)
part D pins: 12 IN D+ (in), 13 IN D- (in), 14 OUT D (out)

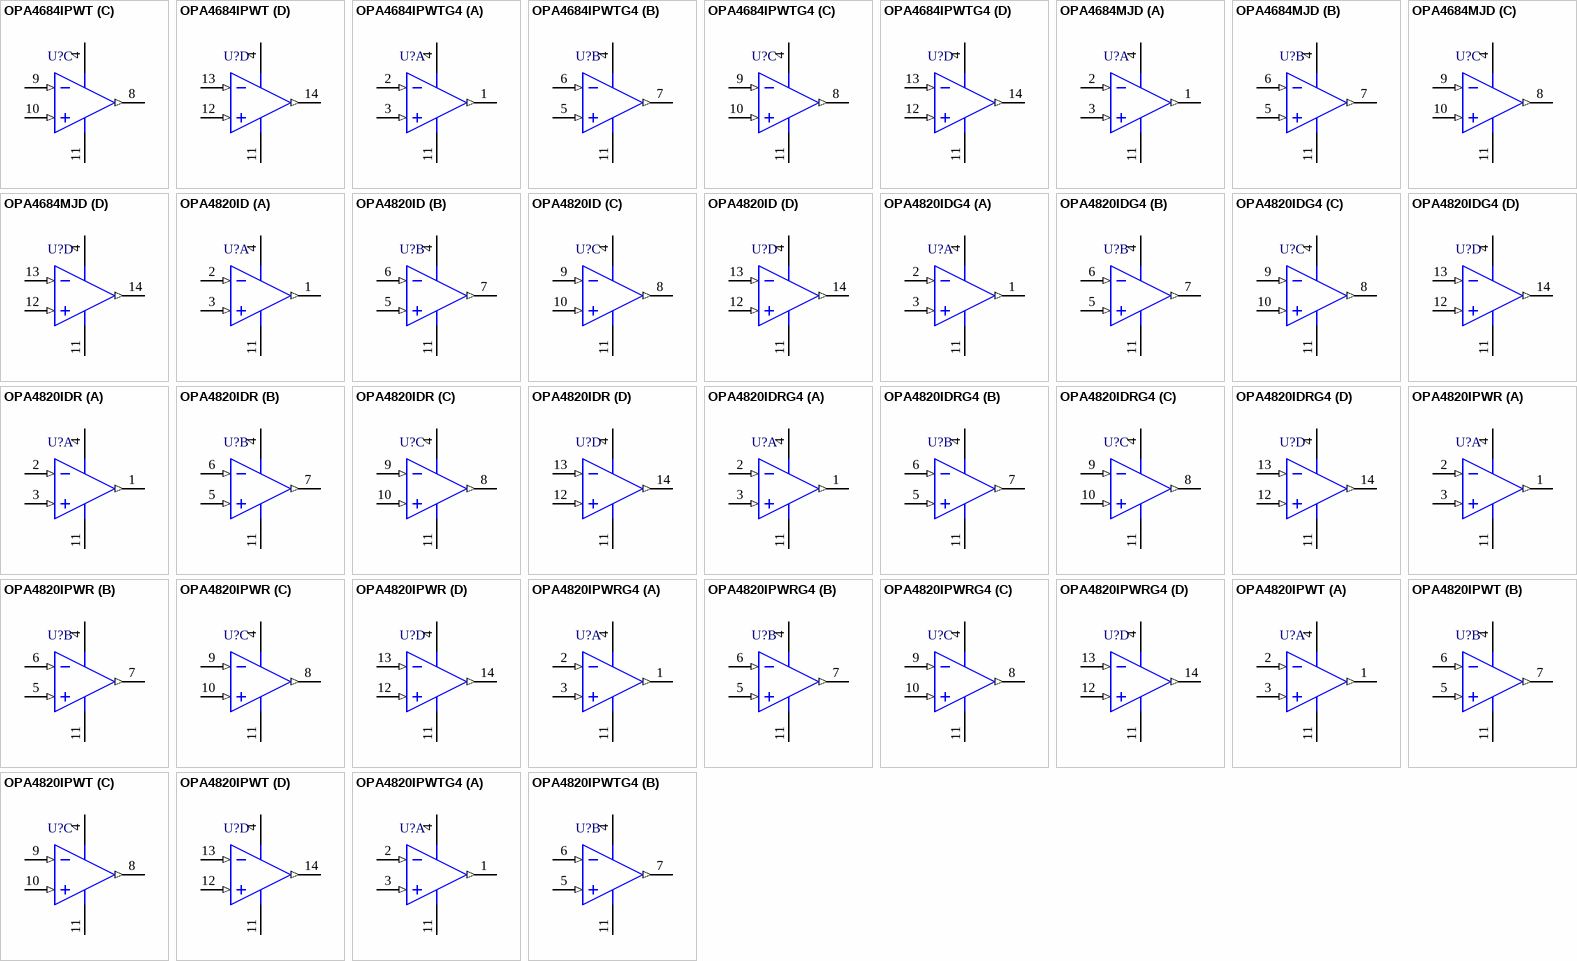
[diagram p20: symbols OPA4684IPWT to OPA4820IPWTG4]

## OPA4684IPWT
designator U?
Quad, Low-Power, Current Feedback Operational Amplifier, 5 to 12 V, -40 to 85 degC, 14-pin SOP (PW14), Green (RoHS & no Sb/Br); Manufacturer: Texas Instruments; PartNumber: OPA4684IPWT; 2nd Harmonic(dBc): 80; @ MHz: 5; Acl, min stable gain(V/V): 1; BW @ Acl(MHz): 250; Diff Gain(%): 0.04; Diff Phase(deg): 0.02; Iib(Max)(nA): 15000; Io(Typ)(mA): 120; Iq per channel(Max)(mA): 7.8; Number of Channels: 4; Slew Rate(Typ)(V/us): 750; Sub Family: High Output Current Amplifier (>=50mA), High Speed Amplifier (>=50MHz); THD (Fc is 1 MHz)(Typ)(dB): -79; Vn at Flatband(Typ)(nV/rtHz): 3.7; Vs(Max)(V): 12; DatasheetVersion: SBOS240G; PackageVersion: 4040064-3/G, 02/2011; PackageReference: PW14; PackageDescription: 14-Pin Plastic Small Outline, Body 5 x 4.4 mm, Pitch 0.65 mm; Supplier 1: Digi-Key; Supplier Part Number 1: 296-13649-2-ND; Supplier 2: Digi-Key; Supplier Part Number 2: 296-13649-1-ND; Supplier 3: Digi-Key; Supplier Part Number 3: 296-13649-6-ND; Supplier 4: Mouser; Supplier Part Number 4: 595-OPA4684IPWT; 3rd Harmonic(dBc): 80; Eco-Plan: Green (RoHS & no Sb/Br); Vio(Max)(mV): 4; Vs(Min)(V): 5; Mounting Technology: Surface Mount; Code_JEDEC: MO-153; ComponentLink1Description: Manufacturer URL; ComponentLink1URL: http://www.ti.com/; ComponentLink2Description: Datasheet; ComponentLink2URL: http://www.ti.com/general/docs/lit/getliterature.tsp?genericPartNumber=OPA4684&fileType=pdf; ComponentLink3Description: Package Specification; ComponentLink3URL: http://www.ti.com/litv/pdf/mpds360
footprint TI-PW14_N (SOP, 14-Leads, Body 5x4.4mm, Pitch 0.65mm, IPC Medium Density)
footprint TI-PW14_L (SOP, 14-Leads, Body 5x4.4mm, Pitch 0.65mm, IPC High Density)
footprint TI-PW14_M (SOP, 14-Leads, Body 5x4.4mm, Pitch 0.65mm, IPC Low Density)
pins on every part: 4 V+ (power), 11 V- (power)
part A pins: 1 OUT A (out), 2 IN A- (in), 3 IN A+ (in)
part B pins: 5 IN B+ (in), 6 IN B- (in), 7 OUT B (out)
part C pins: 8 OUT C (out), 9 IN C- (in), 10 IN C+ (in)
part D pins: 12 IN D+ (in), 13 IN D- (in), 14 OUT D (out)

## OPA4684IPWTG4
designator U?
Quad, Low-Power, Current Feedback Operational Amplifier, 5 to 12 V, -40 to 85 degC, 14-pin SOP (PW14), Green (RoHS & no Sb/Br); Manufacturer: Texas Instruments; PartNumber: OPA4684IPWTG4; 2nd Harmonic(dBc): 82; 3rd Harmonic(dBc): 84; @ MHz: 5; Acl, min stable gain(V/V): 1; BW @ Acl(MHz): 250; Diff Gain(%): 0.04; Diff Phase(deg): 0.02; Iib(Max)(nA): 19500; Io(Typ)(mA): 160; Iq per channel(Max)(mA): 7.8; Number of Channels: 4; Settling Time (0.1%)(Typ)(ns): 14; Slew Rate(Typ)(V/us): 780; Sub Family: High Output Current Amplifier (>=50mA), High Speed Amplifier (>=50MHz); THD (Fc is 1 MHz)(Typ)(dB): -79; Vio(Max)(mV): 4.8; Vn at Flatband(Typ)(nV/rtHz): 4.4; Vs(Max)(V): 12; DatasheetVersion: SBOS240G; PackageVersion: 4040064-3/G, 02/2011; PackageReference: PW14; PackageDescription: 14-Pin Plastic Small Outline, Body 5 x 4.4 mm, Pitch 0.65 mm; Supplier 1: Digi-Key; Supplier Part Number 1: OPA4684IPWTG4-ND; Supplier 2: Mouser; Supplier Part Number 2: 595-OPA4684IPWTG4; Eco-Plan: Green (RoHS & no Sb/Br); Vs(Min)(V): 5; Mounting Technology: Surface Mount; Code_JEDEC: MO-153; ComponentLink1Description: Manufacturer URL; ComponentLink1URL: http://www.ti.com/; ComponentLink2Description: Datasheet; ComponentLink2URL: http://www.ti.com/general/docs/lit/getliterature.tsp?genericPartNumber=OPA4684&fileType=pdf; ComponentLink3Description: Package Specification; ComponentLink3URL: http://www.ti.com/litv/pdf/mpds360
footprint TI-PW14_N (SOP, 14-Leads, Body 5x4.4mm, Pitch 0.65mm, IPC Medium Density)
footprint TI-PW14_L (SOP, 14-Leads, Body 5x4.4mm, Pitch 0.65mm, IPC High Density)
footprint TI-PW14_M (SOP, 14-Leads, Body 5x4.4mm, Pitch 0.65mm, IPC Low Density)
pins on every part: 4 V+ (power), 11 V- (power)
part A pins: 1 OUT A (out), 2 IN A- (in), 3 IN A+ (in)
part B pins: 5 IN B+ (in), 6 IN B- (in), 7 OUT B (out)
part C pins: 8 OUT C (out), 9 IN C- (in), 10 IN C+ (in)
part D pins: 12 IN D+ (in), 13 IN D- (in), 14 OUT D (out)

## OPA4684MJD
designator U?
Military Quad, Low-Power, Current Feedback Operational Amplifier, 5 to 12 V, -55 to 125 degC, 14-pin DIP (JD14); Manufacturer: Texas Instruments; PartNumber: OPA4684MJD; BW @ Acl(MHz): 140; Diff Gain(%): 0.04; Diff Phase(deg): 0.07; Iib(Max)(nA): 13000; Io(Typ)(mA): 120; Number of Channels: 4; Slew Rate(Typ)(V/us): 4.3; Sub Family: High Output Current Amplifier (>=50mA), High Speed Amplifier (>=50MHz); Vs(Max)(V): 12; Vs(Min)(V): 5; DatasheetVersion: SGLS145B; PackageVersion: 4040086-3/F, 07/2003; PackageReference: JD14; PackageDescription: 14-Pin Ceramic Side-Braze Dual-In-Line, Body 18.545 x 7.49 mm, Pitch 2.54 mm; Vio(Max)(mV): 4.3; Mounting Technology: Through Hole; ComponentLink1Description: Manufacturer URL; ComponentLink1URL: http://www.ti.com/; ComponentLink2Description: Datasheet; ComponentLink2URL: http://www.ti.com/general/docs/lit/getliterature.tsp?genericPartNumber=OPA4684M&fileType=pdf; ComponentLink3Description: Package Specification; ComponentLink3URL: http://www.ti.com/litv/pdf/mcdi043a
footprint TI-JD14 (DIP, 14-Leads, Body 18.545x7.49mm, Pitch 2.54mm, TI Recommended)
pins on every part: 4 V+ (power), 11 V- (power)
part A pins: 1 OUT A (out), 2 IN A- (in), 3 IN A+ (in)
part B pins: 5 IN B+ (in), 6 IN B- (in), 7 OUT B (out)
part C pins: 8 OUT C (out), 9 IN C- (in), 10 IN C+ (in)
part D pins: 12 IN D+ (in), 13 IN D- (in), 14 OUT D (out)

## OPA4820ID
designator U?
Quad, Unity-Gain, Low-Noise, Voltage-Feedback Operational Amplifier, 4 to 12.6 V, -40 to 85 degC, 14-pin SOIC (D14), Green (RoHS & no Sb/Br); Manufacturer: Texas Instruments; PartNumber: OPA4820ID; Acl, min stable gain(V/V): 1; BW @ Acl(MHz): 650; Iib(Max)(nA): 20; Io(Typ)(mA): 85; Iq per channel(Max)(mA): 5.7; Number of Channels: 4; Slew Rate(Typ)(V/us): 250; Sub Family: High Output Current Amplifier (>=50mA), High Speed Amplifier (>=50MHz); Vio(Max)(mV): 0.8; Vn at Flatband(Typ)(nV/rtHz): 2.5; Vs(Max)(V): 12.6; DatasheetVersion: SBOS317D; PackageVersion: 4040047-5/M, 06/2011; PackageReference: D14; PackageDescription: 14-Pin Plastic Small Outline, Body 8.65 x 3.9 mm, Pitch 1.27 mm; Supplier 1: Digi-Key; Supplier Part Number 1: 296-17590-5-ND; Supplier 2: Newark; Supplier Part Number 2: 71J7135; Supplier 3: Mouser; Supplier Part Number 3: 595-OPA4820ID; Eco-Plan: Green (RoHS & no Sb/Br); Vs(Min)(V): 4; Mounting Technology: Surface Mount; Code_JEDEC: MS-012; ComponentLink1Description: Manufacturer URL; ComponentLink1URL: http://www.ti.com/; ComponentLink2Description: Datasheet; ComponentLink2URL: http://www.ti.com/general/docs/lit/getliterature.tsp?genericPartNumber=OPA4820&fileType=pdf; ComponentLink3Description: Package Specification; ComponentLink3URL: http://www.ti.com/lit/ml/mpds177g/mpds177g.pdf
footprint TI-D14_N (SOIC, 14-Leads, Body 8.65x3.9mm, Pitch 1.27mm, IPC Medium Density)
footprint TI-D14_L (SOIC, 14-Leads, Body 8.65x3.9mm, Pitch 1.27mm, IPC High Density)
footprint TI-D14_M (SOIC, 14-Leads, Body 8.65x3.9mm, Pitch 1.27mm, IPC Low Density)
pins on every part: 4 V+ (power), 11 V- (power)
part A pins: 1 OUT A (out), 2 IN A- (in), 3 IN A+ (in)
part B pins: 5 IN B+ (in), 6 IN B- (in), 7 OUT B (out)
part C pins: 8 OUT C (out), 9 IN C- (in), 10 IN C+ (in)
part D pins: 12 IN D+ (in), 13 IN D- (in), 14 OUT D (out)

## OPA4820IDG4
designator U?
Quad, Unity-Gain, Low-Noise, Voltage-Feedback Operational Amplifier, 4 to 12.6 V, -40 to 85 degC, 14-pin SOIC (D14), Green (RoHS & no Sb/Br); Manufacturer: Texas Instruments; PartNumber: OPA4820IDG4; Acl, min stable gain(V/V): 1; BW @ Acl(MHz): 650; Iib(Max)(nA): 20; Io(Typ)(mA): 85; Iq per channel(Max)(mA): 5.7; Number of Channels: 4; Slew Rate(Typ)(V/us): 250; Sub Family: High Output Current Amplifier (>=50mA), High Speed Amplifier (>=50MHz); Vio(Max)(mV): 0.8; Vn at Flatband(Typ)(nV/rtHz): 2.5; Vs(Max)(V): 12.6; DatasheetVersion: SBOS317D; PackageVersion: 4040047-5/M, 06/2011; PackageReference: D14; PackageDescription: 14-Pin Plastic Small Outline, Body 8.65 x 3.9 mm, Pitch 1.27 mm; Supplier 1: Digi-Key; Supplier Part Number 1: OPA4820IDG4-ND; Supplier 2: Mouser; Supplier Part Number 2: 595-OPA4820IDG4; Eco-Plan: Green (RoHS & no Sb/Br); Vs(Min)(V): 4; Mounting Technology: Surface Mount; Code_JEDEC: MS-012; ComponentLink1Description: Manufacturer URL; ComponentLink1URL: http://www.ti.com/; ComponentLink2Description: Datasheet; ComponentLink2URL: http://www.ti.com/general/docs/lit/getliterature.tsp?genericPartNumber=OPA4820&fileType=pdf; ComponentLink3Description: Package Specification; ComponentLink3URL: http://www.ti.com/lit/ml/mpds177g/mpds177g.pdf
footprint TI-D14_N (SOIC, 14-Leads, Body 8.65x3.9mm, Pitch 1.27mm, IPC Medium Density)
footprint TI-D14_L (SOIC, 14-Leads, Body 8.65x3.9mm, Pitch 1.27mm, IPC High Density)
footprint TI-D14_M (SOIC, 14-Leads, Body 8.65x3.9mm, Pitch 1.27mm, IPC Low Density)
pins on every part: 4 V+ (power), 11 V- (power)
part A pins: 1 OUT A (out), 2 IN A- (in), 3 IN A+ (in)
part B pins: 5 IN B+ (in), 6 IN B- (in), 7 OUT B (out)
part C pins: 8 OUT C (out), 9 IN C- (in), 10 IN C+ (in)
part D pins: 12 IN D+ (in), 13 IN D- (in), 14 OUT D (out)

## OPA4820IDR
designator U?
Quad, Unity-Gain, Low-Noise, Voltage-Feedback Operational Amplifier, 4 to 12.6 V, -40 to 85 degC, 14-pin SOIC (D14), Green (RoHS & no Sb/Br); Manufacturer: Texas Instruments; PartNumber: OPA4820IDR; Acl, min stable gain(V/V): 1; BW @ Acl(MHz): 650; Iib(Max)(nA): 20; Io(Typ)(mA): 85; Iq per channel(Max)(mA): 5.7; Number of Channels: 4; Slew Rate(Typ)(V/us): 250; Sub Family: High Output Current Amplifier (>=50mA), High Speed Amplifier (>=50MHz); Vio(Max)(mV): 0.8; Vn at Flatband(Typ)(nV/rtHz): 2.5; Vs(Max)(V): 12.6; DatasheetVersion: SBOS317D; PackageVersion: 4040047-5/M, 06/2011; PackageReference: D14; PackageDescription: 14-Pin Plastic Small Outline, Body 8.65 x 3.9 mm, Pitch 1.27 mm; Supplier 1: Digi-Key; Supplier Part Number 1: OPA4820IDR-ND; Supplier 2: Newark; Supplier Part Number 2: 71J7136; Supplier 3: Mouser; Supplier Part Number 3: 595-OPA4820IDR; Eco-Plan: Green (RoHS & no Sb/Br); Vs(Min)(V): 4; Mounting Technology: Surface Mount; Code_JEDEC: MS-012; ComponentLink1Description: Manufacturer URL; ComponentLink1URL: http://www.ti.com/; ComponentLink2Description: Datasheet; ComponentLink2URL: http://www.ti.com/general/docs/lit/getliterature.tsp?genericPartNumber=OPA4820&fileType=pdf; ComponentLink3Description: Package Specification; ComponentLink3URL: http://www.ti.com/lit/ml/mpds177g/mpds177g.pdf
footprint TI-D14_N (SOIC, 14-Leads, Body 8.65x3.9mm, Pitch 1.27mm, IPC Medium Density)
footprint TI-D14_L (SOIC, 14-Leads, Body 8.65x3.9mm, Pitch 1.27mm, IPC High Density)
footprint TI-D14_M (SOIC, 14-Leads, Body 8.65x3.9mm, Pitch 1.27mm, IPC Low Density)
pins on every part: 4 V+ (power), 11 V- (power)
part A pins: 1 OUT A (out), 2 IN A- (in), 3 IN A+ (in)
part B pins: 5 IN B+ (in), 6 IN B- (in), 7 OUT B (out)
part C pins: 8 OUT C (out), 9 IN C- (in), 10 IN C+ (in)
part D pins: 12 IN D+ (in), 13 IN D- (in), 14 OUT D (out)

## OPA4820IDRG4
designator U?
Quad, Unity-Gain, Low-Noise, Voltage-Feedback Operational Amplifier, 4 to 12.6 V, -40 to 85 degC, 14-pin SOIC (D14), Green (RoHS & no Sb/Br); Manufacturer: Texas Instruments; PartNumber: OPA4820IDRG4; Acl, min stable gain(V/V): 1; BW @ Acl(MHz): 650; Iib(Max)(nA): 20; Io(Typ)(mA): 85; Iq per channel(Max)(mA): 5.7; Number of Channels: 4; Slew Rate(Typ)(V/us): 250; Sub Family: High Output Current Amplifier (>=50mA), High Speed Amplifier (>=50MHz); Vio(Max)(mV): 0.8; Vn at Flatband(Typ)(nV/rtHz): 2.5; Vs(Max)(V): 12.6; DatasheetVersion: SBOS317D; PackageVersion: 4040047-5/M, 06/2011; PackageReference: D14; PackageDescription: 14-Pin Plastic Small Outline, Body 8.65 x 3.9 mm, Pitch 1.27 mm; Supplier 1: Digi-Key; Supplier Part Number 1: OPA4820IDRG4-ND; Supplier 2: Mouser; Supplier Part Number 2: 595-OPA4820IDRG4; Eco-Plan: Green (RoHS & no Sb/Br); Vs(Min)(V): 4; Mounting Technology: Surface Mount; Code_JEDEC: MS-012; ComponentLink1Description: Manufacturer URL; ComponentLink1URL: http://www.ti.com/; ComponentLink2Description: Datasheet; ComponentLink2URL: http://www.ti.com/general/docs/lit/getliterature.tsp?genericPartNumber=OPA4820&fileType=pdf; ComponentLink3Description: Package Specification; ComponentLink3URL: http://www.ti.com/lit/ml/mpds177g/mpds177g.pdf
footprint TI-D14_N (SOIC, 14-Leads, Body 8.65x3.9mm, Pitch 1.27mm, IPC Medium Density)
footprint TI-D14_L (SOIC, 14-Leads, Body 8.65x3.9mm, Pitch 1.27mm, IPC High Density)
footprint TI-D14_M (SOIC, 14-Leads, Body 8.65x3.9mm, Pitch 1.27mm, IPC Low Density)
pins on every part: 4 V+ (power), 11 V- (power)
part A pins: 1 OUT A (out), 2 IN A- (in), 3 IN A+ (in)
part B pins: 5 IN B+ (in), 6 IN B- (in), 7 OUT B (out)
part C pins: 8 OUT C (out), 9 IN C- (in), 10 IN C+ (in)
part D pins: 12 IN D+ (in), 13 IN D- (in), 14 OUT D (out)

## OPA4820IPWR
designator U?
Quad, Unity-Gain, Low-Noise, Voltage-Feedback Operational Amplifier, 4 to 12.6 V, -40 to 85 degC, 14-pin SOP (PW14), Green (RoHS & no Sb/Br); Manufacturer: Texas Instruments; PartNumber: OPA4820IPWR; Acl, min stable gain(V/V): 1; BW @ Acl(MHz): 650; Iib(Max)(nA): 20; Io(Typ)(mA): 85; Iq per channel(Max)(mA): 5.7; Number of Channels: 4; Slew Rate(Typ)(V/us): 250; Sub Family: High Output Current Amplifier (>=50mA), High Speed Amplifier (>=50MHz); Vio(Max)(mV): 0.8; Vn at Flatband(Typ)(nV/rtHz): 2.5; Vs(Max)(V): 12.6; DatasheetVersion: SBOS317D; PackageVersion: 4040064-3/G, 02/2011; PackageReference: PW14; PackageDescription: 14-Pin Plastic Small Outline, Body 5 x 4.4 mm, Pitch 0.65 mm; Supplier 1: Digi-Key; Supplier Part Number 1: OPA4820IPWR-ND; Supplier 2: Mouser; Supplier Part Number 2: 595-OPA4820IPWR; Eco-Plan: Green (RoHS & no Sb/Br); Vs(Min)(V): 4; Mounting Technology: Surface Mount; Code_JEDEC: MO-153; ComponentLink1Description: Manufacturer URL; ComponentLink1URL: http://www.ti.com/; ComponentLink2Description: Datasheet; ComponentLink2URL: http://www.ti.com/general/docs/lit/getliterature.tsp?genericPartNumber=OPA4820&fileType=pdf; ComponentLink3Description: Package Specification; ComponentLink3URL: http://www.ti.com/litv/pdf/mpds360
footprint TI-PW14_N (SOP, 14-Leads, Body 5x4.4mm, Pitch 0.65mm, IPC Medium Density)
footprint TI-PW14_L (SOP, 14-Leads, Body 5x4.4mm, Pitch 0.65mm, IPC High Density)
footprint TI-PW14_M (SOP, 14-Leads, Body 5x4.4mm, Pitch 0.65mm, IPC Low Density)
pins on every part: 4 V+ (power), 11 V- (power)
part A pins: 1 OUT A (out), 2 IN A- (in), 3 IN A+ (in)
part B pins: 5 IN B+ (in), 6 IN B- (in), 7 OUT B (out)
part C pins: 8 OUT C (out), 9 IN C- (in), 10 IN C+ (in)
part D pins: 12 IN D+ (in), 13 IN D- (in), 14 OUT D (out)

## OPA4820IPWRG4
designator U?
Quad, Unity-Gain, Low-Noise, Voltage-Feedback Operational Amplifier, 4 to 12.6 V, -40 to 85 degC, 14-pin SOP (PW14), Green (RoHS & no Sb/Br); Manufacturer: Texas Instruments; PartNumber: OPA4820IPWRG4; Acl, min stable gain(V/V): 1; BW @ Acl(MHz): 650; Iib(Max)(nA): 20; Io(Typ)(mA): 85; Iq per channel(Max)(mA): 5.7; Number of Channels: 4; Slew Rate(Typ)(V/us): 250; Sub Family: High Output Current Amplifier (>=50mA), High Speed Amplifier (>=50MHz); Vio(Max)(mV): 0.8; Vn at Flatband(Typ)(nV/rtHz): 2.5; Vs(Max)(V): 12.6; DatasheetVersion: SBOS317D; PackageVersion: 4040064-3/G, 02/2011; PackageReference: PW14; PackageDescription: 14-Pin Plastic Small Outline, Body 5 x 4.4 mm, Pitch 0.65 mm; Supplier 1: Digi-Key; Supplier Part Number 1: OPA4820IPWRG4-ND; Supplier 2: Mouser; Supplier Part Number 2: 595-OPA4820IPWRG4; Eco-Plan: Green (RoHS & no Sb/Br); Vs(Min)(V): 4; Mounting Technology: Surface Mount; Code_JEDEC: MO-153; ComponentLink1Description: Manufacturer URL; ComponentLink1URL: http://www.ti.com/; ComponentLink2Description: Datasheet; ComponentLink2URL: http://www.ti.com/general/docs/lit/getliterature.tsp?genericPartNumber=OPA4820&fileType=pdf; ComponentLink3Description: Package Specification; ComponentLink3URL: http://www.ti.com/litv/pdf/mpds360
footprint TI-PW14_N (SOP, 14-Leads, Body 5x4.4mm, Pitch 0.65mm, IPC Medium Density)
footprint TI-PW14_L (SOP, 14-Leads, Body 5x4.4mm, Pitch 0.65mm, IPC High Density)
footprint TI-PW14_M (SOP, 14-Leads, Body 5x4.4mm, Pitch 0.65mm, IPC Low Density)
pins on every part: 4 V+ (power), 11 V- (power)
part A pins: 1 OUT A (out), 2 IN A- (in), 3 IN A+ (in)
part B pins: 5 IN B+ (in), 6 IN B- (in), 7 OUT B (out)
part C pins: 8 OUT C (out), 9 IN C- (in), 10 IN C+ (in)
part D pins: 12 IN D+ (in), 13 IN D- (in), 14 OUT D (out)

## OPA4820IPWT
designator U?
Quad, Unity-Gain, Low-Noise, Voltage-Feedback Operational Amplifier, 4 to 12.6 V, -40 to 85 degC, 14-pin SOP (PW14), Green (RoHS & no Sb/Br); Manufacturer: Texas Instruments; PartNumber: OPA4820IPWT; Acl, min stable gain(V/V): 1; BW @ Acl(MHz): 650; Iib(Max)(nA): 20; Io(Typ)(mA): 85; Iq per channel(Max)(mA): 5.7; Number of Channels: 4; Slew Rate(Typ)(V/us): 250; Sub Family: High Output Current Amplifier (>=50mA), High Speed Amplifier (>=50MHz); Vio(Max)(mV): 0.8; Vn at Flatband(Typ)(nV/rtHz): 2.5; Vs(Max)(V): 12.6; DatasheetVersion: SBOS317D; PackageVersion: 4040064-3/G, 02/2011; PackageReference: PW14; PackageDescription: 14-Pin Plastic Small Outline, Body 5 x 4.4 mm, Pitch 0.65 mm; Supplier 1: Digi-Key; Supplier Part Number 1: 296-17560-2-ND; Supplier 2: Digi-Key; Supplier Part Number 2: 296-17560-1-ND; Supplier 3: Digi-Key; Supplier Part Number 3: 296-17560-6-ND; Supplier 4: Newark; Supplier Part Number 4: 71J7138; Supplier 5: Mouser; Supplier Part Number 5: 595-OPA4820IPWT; Eco-Plan: Green (RoHS & no Sb/Br); Vs(Min)(V): 4; Mounting Technology: Surface Mount; Code_JEDEC: MO-153; ComponentLink1Description: Manufacturer URL; ComponentLink1URL: http://www.ti.com/; ComponentLink2Description: Datasheet; ComponentLink2URL: http://www.ti.com/general/docs/lit/getliterature.tsp?genericPartNumber=OPA4820&fileType=pdf; ComponentLink3Description: Package Specification; ComponentLink3URL: http://www.ti.com/litv/pdf/mpds360
footprint TI-PW14_N (SOP, 14-Leads, Body 5x4.4mm, Pitch 0.65mm, IPC Medium Density)
footprint TI-PW14_L (SOP, 14-Leads, Body 5x4.4mm, Pitch 0.65mm, IPC High Density)
footprint TI-PW14_M (SOP, 14-Leads, Body 5x4.4mm, Pitch 0.65mm, IPC Low Density)
pins on every part: 4 V+ (power), 11 V- (power)
part A pins: 1 OUT A (out), 2 IN A- (in), 3 IN A+ (in)
part B pins: 5 IN B+ (in), 6 IN B- (in), 7 OUT B (out)
part C pins: 8 OUT C (out), 9 IN C- (in), 10 IN C+ (in)
part D pins: 12 IN D+ (in), 13 IN D- (in), 14 OUT D (out)

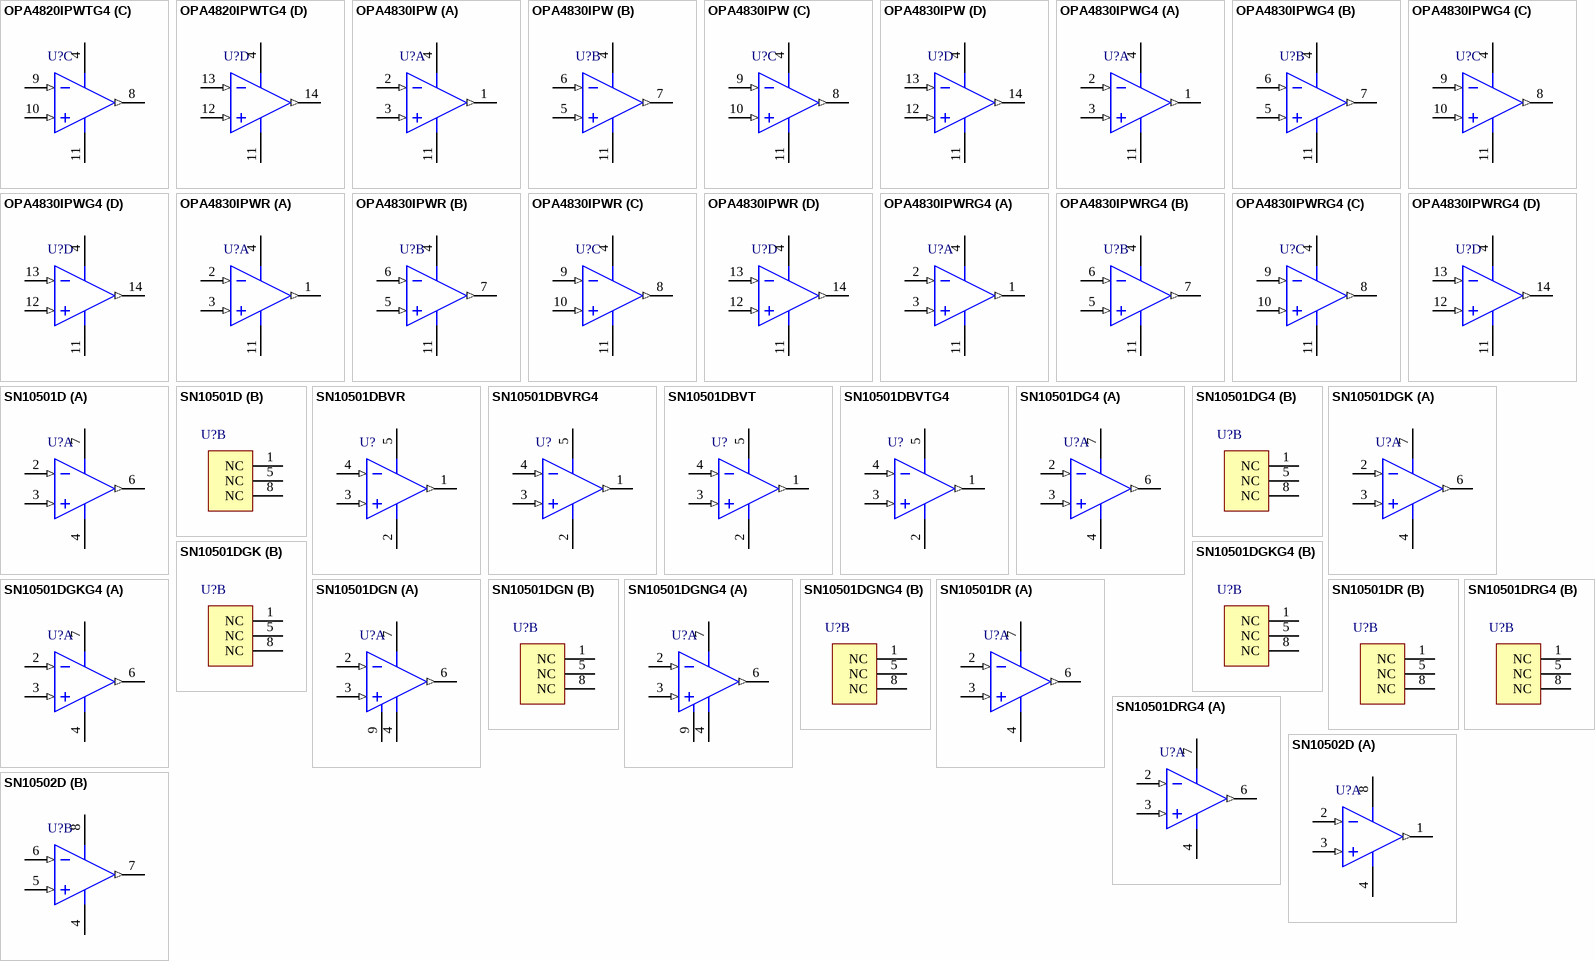
[diagram p21: symbols OPA4820IPWTG4 to SN10502D]